# Altium footprint library JST_S2B-XH-A(LF)(SN).PcbLib: 1 footprints
Each footprint in its own frame and in the unit in brackets; x right, y up, seen from the top. Pads: shape width x height; smd on the part's side, far side on the other; paste and mask are expansions set on the pad; w line width, h text height; cw(c..) or ccw(c..) is an arc to the next point about the centre after c.
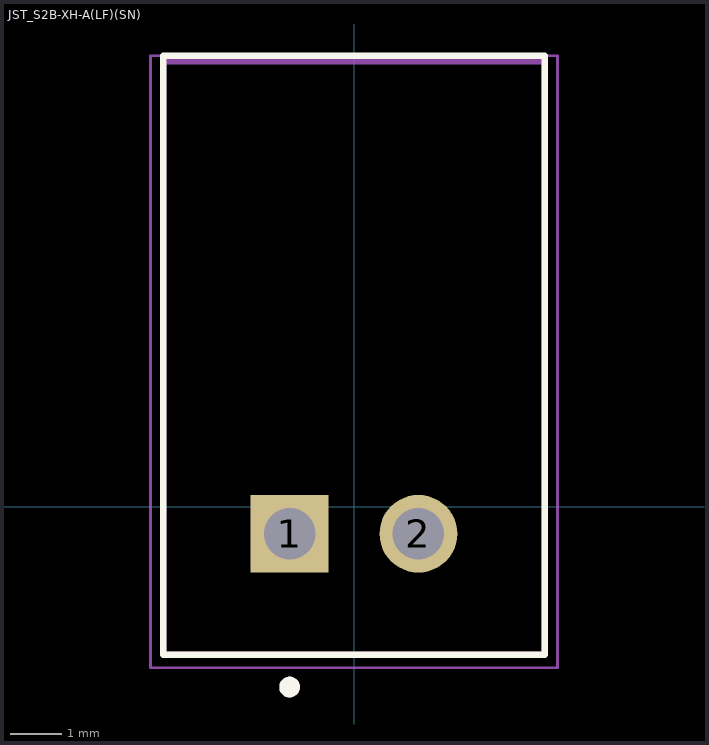
[diagram p0: the footprint, top view; thin cyan lines are the x and y axes]

## JST_S2B-XH-A(LF)(SN) [mm]
pads (2):
  rect 1.508x1.508 hole 1: 1(-1.25,-0.525)
  round 1.508 hole 1: 2(1.25,-0.525)
Top Overlay:
  circle w0.2: c-1.25,-3.5 r0.1
  lines w0.127: -3.7,-2.875 -3.7,8.75 3.7,8.75 3.7,-2.875 -3.7,-2.875
Mechanical 13:
  circle w0.2: c-1.25,-3.5 r0.1
  lines w0.127: -3.7,-2.875 -3.7,8.643 3.7,8.643 3.7,-2.875 -3.7,-2.875
Mechanical 15:
  lines w0.05: -3.95,-3.125 -3.95,8.75 3.95,8.75 3.95,-3.125 -3.95,-3.125
3D body "S2B XH-A.step": height 6.1, standoff -2, extent -3.717,-2.864 3.683,8.636